# Altium footprint library Ultrasound.PcbLib: 29 footprints (part 2 of 2)
Each footprint in its own frame and in the unit in brackets; x right, y up, seen from the top. Pads: shape width x height; smd on the part's side, far side on the other; paste and mask are expansions set on the pad; w line width, h text height; cw(c..) or ccw(c..) is an arc to the next point about the centre after c.
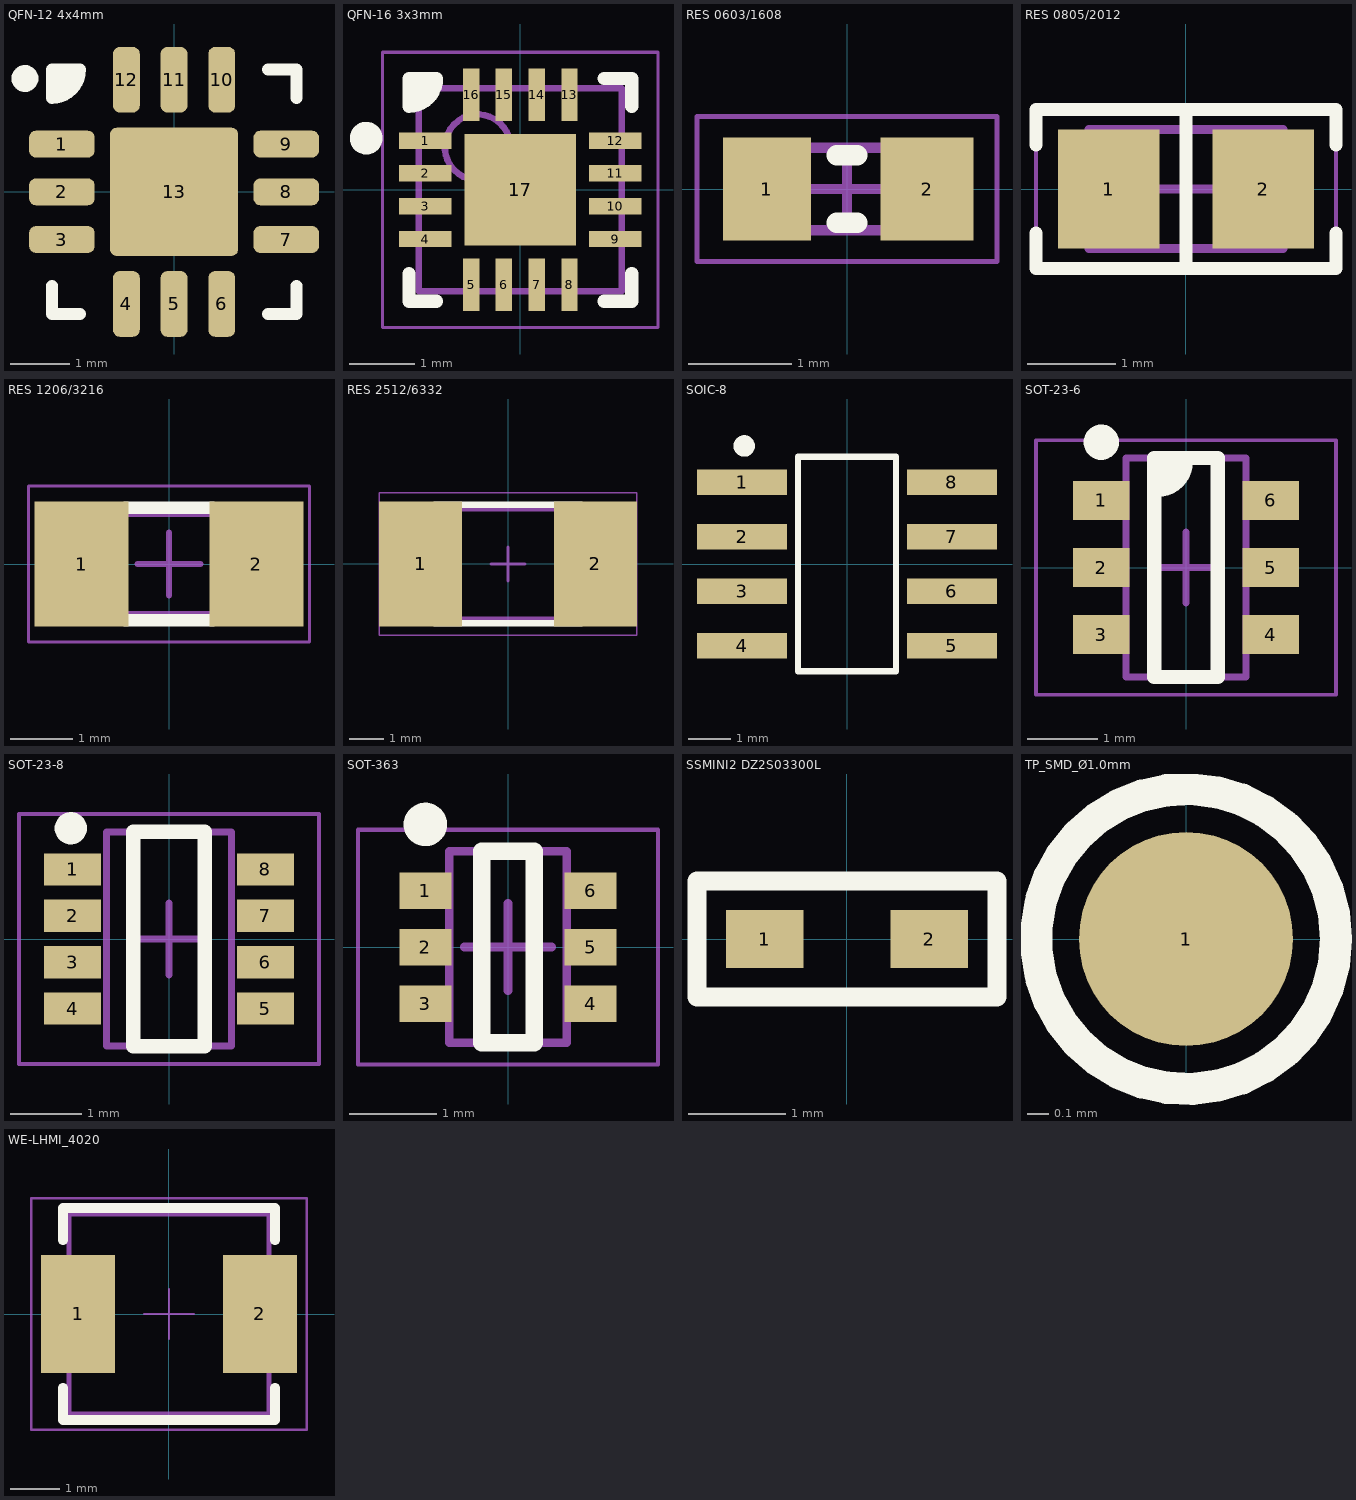
[diagram p1: the footprints below, top view; thin cyan lines are the x and y axes]

## QFN-12 4x4mm [mm] "0.8 mm pitch"
height 1
pads (13):
  rrect50% 1.1x0.45 smd: 1(-1.88,0.8) 2(-1.88,0) 3(-1.88,-0.8) 7(1.88,-0.8) 8(1.88,0) 9(1.88,0.8)
  rrect50% 0.45x1.1 smd: 4(-0.8,-1.88) 5(0,-1.88) 6(0.8,-1.88) 10(0.8,1.88) 11(0,1.88) 12(-0.8,1.88)
  rrect10% 2.15x2.15 smd: 13(0,0)
Top Overlay:
  circle w0.25: c-2.5,1.9 r0.1
  region: -2.05,2.05 -1.575,2.05 -1.575,1.854 -1.854,1.575 -2.05,1.575
  lines w0.2: -2.05,-1.575 -2.05,-2.05 -1.575,-2.05 ; 1.575,-2.05 2.05,-2.05 2.05,-1.575 ; 1.575,2.05 2.05,2.05 2.05,1.575 ; -2.05,1.575 ccw(c-2.05,2.05) -1.575,2.05 -2.05,2.05 -2.05,1.575
Mechanical 15:
  lines w0.1: -0.5,0 0.5,0 ; 0,-0.5 0,0.5
3D body "User Library-qfn16-4x4.step": height 0.92, standoff 0, extent -2,-2 2,2

## QFN-16 3x3mm [mm] "QFN, 16-Leads, Body 3.00x3.00mm, Pitch 0.50mm, Thermal Pad 1.70x1.70mm, IPC Medium Density"
height 0.9
pads (17):
  rect 0.8x0.25 smd: 1(-1.45,0.75) 2(-1.45,0.25) 3(-1.45,-0.25) 4(-1.45,-0.75) 9(1.45,-0.75) 10(1.45,-0.25) 11(1.45,0.25) 12(1.45,0.75)
  rect 0.25x0.8 smd: 5(-0.75,-1.45) 6(-0.25,-1.45) 7(0.25,-1.45) 8(0.75,-1.45) 13(0.75,1.45) 14(0.25,1.45) 15(-0.25,1.45) 16(-0.75,1.45)
  rect 1.7x1.7 smd: 17(0,0)
Top Overlay:
  circle w0.25: c-2.35,0.788 r0.125
  region: -1.7,1.7 -1.275,1.7 -1.275,1.519 -1.519,1.275 -1.7,1.275
  lines w0.2: -1.7,-1.275 -1.7,-1.7 -1.275,-1.7 ; 1.275,-1.7 1.7,-1.7 1.7,-1.275 ; 1.275,1.7 1.7,1.7 1.7,1.275 ; -1.7,1.275 ccw(c-1.7,1.7) -1.275,1.7 -1.7,1.7 -1.7,1.275
Mechanical 13:
  circle w0.1: c-0.65,0.65 r0.5
  lines w0.1: -1.55,-1.55 1.55,-1.55 1.55,1.55 -1.55,1.55 -1.55,-1.55
Mechanical 15:
  lines w0.05: -2.1,-2.1 2.1,-2.1 2.1,2.1 -2.1,2.1 -2.1,-2.1
  lines w0.1: -0.5,0 0.5,0 ; 0,-0.5 0,0.5
3D body: height 0.9, standoff 0.01, extent -1.55,-1.55 1.55,1.55

## RES 0603/1608 [mm]
height 0.45
pads (2):
  rect 0.85x1 smd: 1(-0.775,0)
  rect 0.9x1 smd: 2(0.775,0)
Top Overlay:
  lines w0.2: -0.1,-0.325 0.1,-0.325 ; -0.1,0.325 0.1,0.325
Mechanical 13:
  lines w0.1: -0.8,-0.4 -0.8,0.4 0.8,0.4 0.8,-0.4 -0.8,-0.4
Mechanical 15:
  lines w0.05: -1.45,-0.7 -1.45,0.7 1.45,0.7 1.45,-0.7 -1.45,-0.7
  lines w0.1: -0.4,0 0.4,0 ; 0,-0.4 0,0.4
3D body "RESC-0603.stp": height 0.55, standoff 0, extent -0.85,-0.45 0.85,0.45

## RES 0805/2012 [mm] "Chip Resistor, 2-Leads, Body 2.00x1.25mm, IPC Medium Density"
height 0.7
pads (2):
  rect 1.15x1.35 smd: 1(-0.875,0) 2(0.875,0)
Top Overlay:
  lines w0.15: -1.7,-0.5 -1.7,-0.9 1.7,-0.9 1.7,-0.5 ; -1.7,0.5 -1.7,0.9 1.7,0.9 1.7,0.5 ; 0,-0.9 0,0.9
Mechanical 13:
  lines w0.1: -1.1,-0.675 -1.1,0.675 1.1,0.675 1.1,-0.675 -1.1,-0.675
Mechanical 15:
  lines w0.05: -1.7,-0.95 -1.7,0.95 1.7,0.95 1.7,-0.95 -1.7,-0.95
  lines w0.1: -0.5,0 0.5,0 ; 0,-0.5 0,0.5
3D body "RESC-0805.stp": height 0.6, standoff 0, extent -1.05,-0.675 1.05,0.675

## RES 1206/3216 [mm]
height 0.6
pads (2):
  rect 1.5x2 smd: 1(-1.4,0) 2(1.4,0)
Top Overlay:
  lines w0.2: -0.7,-0.9 0.7,-0.9 ; -0.7,0.9 0.7,0.9
Mechanical 13:
  lines w0.1: -1.6,-0.8 -1.6,0.8 1.6,0.8 1.6,-0.8 -1.6,-0.8
Mechanical 15:
  lines w0.05: -2.25,-1.25 -2.25,1.25 2.25,1.25 2.25,-1.25 -2.25,-1.25
  lines w0.1: -0.5,0 0.5,0 ; 0,-0.5 0,0.5
3D body "RESC-1206.stp": height 0.65, standoff 0, extent -1.65,-0.85 1.65,0.85

## RES 2512/6332 [mm] "Chip Resistor, 2-Leads, Body 6,30x3,20mm, IPC Medium Density"
height 0.6
pads (2):
  rect 2.45x3.7 smd: 1(-2.575,0) 2(2.575,0)
Top Overlay:
  lines w0.2: -2.15,-1.75 2.15,-1.75 ; -2.15,1.75 2.15,1.75
Mechanical 13:
  lines w0.1: -3.15,-1.6 3.15,-1.6 3.15,1.6 -3.15,1.6 -3.15,-1.6
Mechanical 15:
  lines w0.05: -3.8,-2.1 3.8,-2.1 3.8,2.1 -3.8,2.1 -3.8,-2.1
  lines w0.1: -0.5,0 0.5,0 ; 0,-0.5 0,0.5
3D body "RESC-2512.stp": height 0.65, standoff 0, extent -3.2,-1.65 3.2,1.65

## SOIC-8 [mm] "SOIC, 8-Leads, Body 4.9x3.9mm, Pitch 1.27mm, IPC Medium Density"
height 1.75
pads (8):
  rect 2.1x0.6 smd paste-5: 1(-2.45,1.905) 2(-2.45,0.635) 3(-2.45,-0.635) 4(-2.45,-1.905) 5(2.45,-1.905) 6(2.45,-0.635) 7(2.45,0.635) 8(2.45,1.905)
Top Overlay:
  circle w0.25: c-2.4,2.755 r0.125
  lines w0.15: -1.143,-2.5 1.143,-2.5 1.143,2.5 -1.143,2.5 -1.143,-2.5
Top Paste:
  region: 1.775,2.2 1.775,1.625 3.25,1.625 3.25,2.2
  region: 1.775,0.925 1.775,0.35 3.25,0.35 3.25,0.925
  region: 1.775,-0.35 1.775,-0.925 3.25,-0.925 3.25,-0.35
  region: 1.775,-1.625 1.775,-2.2 3.25,-2.2 3.25,-1.625
  region: -1.775,1.625 -1.775,2.2 -3.25,2.2 -3.25,1.625
  region: -1.775,0.35 -1.775,0.925 -3.25,0.925 -3.25,0.35
  region: -1.775,-0.925 -1.775,-0.35 -3.25,-0.35 -3.25,-0.925
  region: -1.775,-2.2 -1.775,-1.625 -3.25,-1.625 -3.25,-2.2
3D body "User Library-SOIC08-150.step": height 1.75, standoff 0, extent -2.9,-2.4 2.9,2.4

## SOT-23-6 [mm] "SOT23, 6-Leads, Body 3.00x2.85mm, Pitch 0.95mm, IPC Medium Density"
height 1.3
pads (6):
  rect 0.8x0.55 smd: 1(-1.2,0.95) 2(-1.2,0) 3(-1.2,-0.95) 4(1.2,-0.95) 5(1.2,0) 6(1.2,0.95)
Top Overlay:
  circle w0.25: c-1.2,1.775 r0.125
  region: -0.45,1.55 0.1,1.55 0.1,1.5 -0.3,1.1 -0.45,1.1
  lines w0.2: -0.4,1.1 ccw(c-0.4,1.5) 0,1.5 ; -0.45,-1.55 -0.45,1.55 0.45,1.55 0.45,-1.55 -0.45,-1.55
Mechanical 13:
  lines w0.1: -0.85,-1.55 0.85,-1.55 0.85,1.55 -0.85,1.55 -0.85,-1.55
Mechanical 15:
  lines w0.05: -2.125,-1.8 2.125,-1.8 2.125,1.8 -2.125,1.8 -2.125,-1.8
  lines w0.1: -0.5,0 0.5,0 ; 0,-0.5 0,0.5
3D body "sot-23-6-atmel.STEP": height 1.45, standoff 0, extent -1.41,-1.45 1.41,1.45

## SOT-23-8 [mm] "SOT23, 6-Leads, Body 2,90x2,80mm, Pitch 0,65mm, IPC Medium Density"
height 1.1
pads (8):
  rect 0.8x0.45 smd: 1(-1.35,0.975) 2(-1.35,0.325) 3(-1.35,-0.325) 4(-1.35,-0.975) 5(1.35,-0.975) 6(1.35,-0.325) 7(1.35,0.325) 8(1.35,0.975)
Top Overlay:
  circle w0.25: c-1.375,1.55 r0.1
  lines w0.2: -0.5,-1.5 -0.5,1.5 0.5,1.5 0.5,-1.5 -0.5,-1.5
Mechanical 13:
  lines w0.1: -0.875,-1.5 0.875,-1.5 0.875,1.5 -0.875,1.5 -0.875,-1.5
Mechanical 15:
  lines w0.05: -2.1,-1.75 2.1,-1.75 2.1,1.75 -2.1,1.75 -2.1,-1.75
  lines w0.1: -0.5,0 0.5,0 ; 0,-0.5 0,0.5
3D body "SOT23-8.STEP": height 1, standoff 0, extent -1.4,-1.45 1.4,1.45

## SOT-363 [mm] "SOT363, 6-Leads, Body 2.00x2.10mm, Pitch 0.65mm, IPC Medium Density"
height 1.1
pads (6):
  rect 0.6x0.42 smd: 1(-0.95,0.65) 2(-0.95,0) 3(-0.95,-0.65) 4(0.95,-0.65) 5(0.95,0) 6(0.95,0.65)
Top Overlay:
  circle w0.25: c-0.95,1.41 r0.125
  lines w0.2: -0.3,-1.1 -0.3,1.1 0.3,1.1 0.3,-1.1 -0.3,-1.1
Mechanical 13:
  lines w0.1: -0.675,-1.1 0.675,-1.1 0.675,1.1 -0.675,1.1 -0.675,-1.1
Mechanical 15:
  lines w0.05: -1.725,-1.35 1.725,-1.35 1.725,1.35 -1.725,1.35 -1.725,-1.35
  lines w0.1: -0.5,0 0.5,0 ; 0,-0.5 0,0.5
3D body "SOT-363.STEP": height 1.05, standoff 0, extent -1.058,-1.1 1.058,1.1

## SSMINI2 DZ2S03300L [mm]
pads (2):
  rect 0.8x0.6 smd: 1(-0.85,0) 2(0.85,0)
Top Overlay:
  lines w0.2: -1.55,-0.6 -1.55,0 -1.55,0.6 1.55,0.6 1.55,-0.6 -1.55,-0.6
3D body "SMini2-F5-B.STEP": height 0.7, standoff 0, extent -1.25,-0.625 1.25,0.625

## TP_SMD_Ø1.0mm [mm]
pads (1):
  round 1 smd paste-5: 1(0,0)
Top Overlay:
  circle w0.15: c0,0 r0.7

## WE-LHMI_4020 [mm] "SMT Power Inductor, 2-Leads, body 4.06x4.06mm"
height 2
pads (2):
  rect 1.5x2.4 smd: 1(-1.85,0) 2(1.85,0)
Top Overlay:
  lines w0.2: -2.155,-1.5 -2.155,-2.155 2.155,-2.155 2.155,-1.5 ; -2.155,1.5 -2.155,2.155 2.155,2.155 2.155,1.5
Mechanical 13:
  lines w0.1: -2.03,-2.03 -2.03,2.03 2.03,2.03 2.03,-2.03 -2.03,-2.03
Mechanical 15:
  lines w0.05: -0.5,0 0.5,0 ; 0,-0.5 0,0.5 ; -2.8,-2.355 -2.8,2.355 2.8,2.355 2.8,-2.355 -2.8,-2.355
3D body "WE-LHMI_4020.stp": height 1.8, standoff 0, extent -2.225,-2.03 2.225,2.03